# Altium footprint library CCHUB_Footprints.PcbLib: 7 footprints
Each footprint in its own frame and in the unit in brackets; x right, y up, seen from the top. Pads: shape width x height; smd on the part's side, far side on the other; paste and mask are expansions set on the pad; w line width, h text height; cw(c..) or ccw(c..) is an arc to the next point about the centre after c.
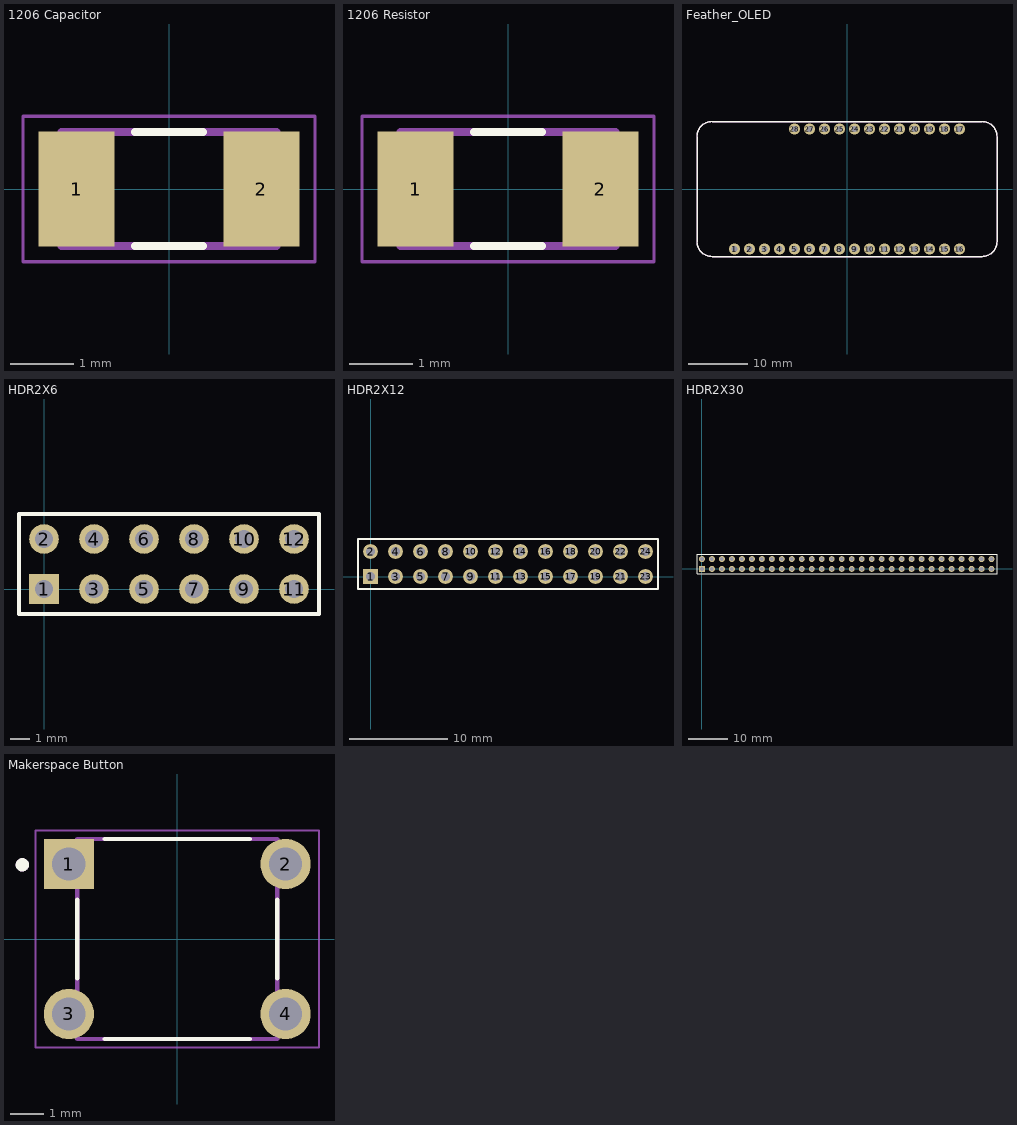
[diagram p0: the footprints below, top view; thin cyan lines are the x and y axes]

## 1206 Capacitor [mm]
pads (2):
  rect 1.2x1.82 smd: 1(-1.46,0) 2(1.46,0)
Top Overlay:
  lines w0.127: -0.54,-0.9 0.54,-0.9 ; -0.54,0.9 0.54,0.9
Mechanical 13:
  lines w0.127: -1.7,-0.9 1.7,-0.9 1.7,0.9 -1.7,0.9 -1.7,-0.9
Mechanical 15:
  lines w0.05: -2.308,-1.15 2.308,-1.15 2.308,1.15 -2.308,1.15 -2.308,-1.15
3D body "Capacitor 1206.STEP": height 1.61, standoff 0.01, extent -1.6,-0.902 1.6,0.898

## 1206 Resistor [mm]
pads (2):
  rect 1.2x1.82 smd: 1(-1.46,0) 2(1.46,0)
Top Overlay:
  lines w0.127: -0.54,-0.9 0.54,-0.9 ; -0.54,0.9 0.54,0.9
Mechanical 13:
  lines w0.127: -1.7,-0.9 -1.7,0.9 1.7,0.9 1.7,-0.9 -1.7,-0.9
Mechanical 15:
  lines w0.05: -2.308,-1.15 -2.308,1.15 2.308,1.15 2.308,-1.15 -2.308,-1.15
3D body "Resistor 1206.stp": height 0.56, standoff 0.01, extent -1.55,-0.775 1.55,0.775

## Feather_OLED [mil]
pads (28):
  round 74 hole 40: 1(-750,-400) 2(-650,-400) 3(-550,-400) 4(-450,-400) 5(-350,-400) 6(-250,-400) 7(-150,-400) 8(-50,-400) 9(50,-400) 10(150,-400) 11(250,-400) 12(350,-400) 13(450,-400) 14(550,-400) 15(650,-400) 16(750,-400) 17(750,400) 18(650,400) 19(550,400) 20(450,400) 21(350,400) 22(250,400) 23(150,400) 24(50,400) 25(-50,400) 26(-150,400) 27(-250,400) 28(-350,400)
Top Overlay:
  lines w10: -1000,-350 ccw(c-900,-350) -900,-450 900,-450 ccw(c900,-350) 1000,-350 1000,350 ccw(c900,350) 900,450 -900,450 ccw(c-900,350) -1000,350 -1000,-350
Mechanical 1:
  lines w10: -1000,-350 ccw(c-900,-350) -900,-450 900,-450 ccw(c900,-350) 1000,-350 1000,350 ccw(c900,350) 900,450 -900,450 ccw(c-900,350) -1000,350 -1000,-350
3D body "8-Pin Socket.stp": height 335.15, standoff -113.67, extent 0,350 800,450
3D body "2900 Feather OLED Wing.step": height 571.8, standoff 335.58, extent -1000,-450 1000,450
3D body "8-Pin Socket.stp": height 335.15, standoff -113.67, extent -800,-450 0,-350
3D body "8-Pin Socket.stp": height 335.15, standoff -113.67, extent 0,-450 800,-350
3D body "8-Pin Socket.stp": height 335.15, standoff -113.67, extent -400,350 400,450

## HDR2X6 [mm] "Connector; Header; 6x2 Position"
pads (12):
  rect 1.5x1.5 hole 0.9: 1(0,0)
  round 1.5 hole 0.9: 2(0,2.54) 3(2.54,0) 4(2.54,2.54) 5(5.08,0) 6(5.08,2.54) 7(7.62,0) 8(7.62,2.54) 9(10.16,0) 10(10.16,2.54) 11(12.7,0) 12(12.7,2.54)
Top Overlay:
  lines w0.2: -1.27,-1.27 13.97,-1.27 13.97,3.81 -1.27,3.81 -1.27,-1.27
3D body "6x2.STEP": height 8.52, standoff -3.39, extent -1.524,-1.27 14.224,3.81

## HDR2X12 [mm] "Connector; Header; 12x2 Position"
pads (24):
  rect 1.5x1.5 hole 0.9: 1(0,0)
  round 1.5 hole 0.9: 2(0,2.54) 3(2.54,0) 4(2.54,2.54) 5(5.08,0) 6(5.08,2.54) 7(7.62,0) 8(7.62,2.54) 9(10.16,0) 10(10.16,2.54) 11(12.7,0) 12(12.7,2.54) 13(15.24,0) 14(15.24,2.54) 15(17.78,0) 16(17.78,2.54) 17(20.32,0) 18(20.32,2.54) 19(22.86,0) 20(22.86,2.54) 21(25.4,0) 22(25.4,2.54) 23(27.94,0) 24(27.94,2.54)
Top Overlay:
  lines w0.2: -1.27,-1.27 -1.27,3.81 29.21,3.81 29.21,-1.27 -1.27,-1.27
3D body "12x2.STEP": height 8.52, standoff -3.39, extent -1.524,-1.27 29.464,3.81

## HDR2X30 [mm] "Connector; Header; 30x2 Position"
pads (60):
  rect 1.5x1.5 hole 0.9: 1(0,0)
  round 1.5 hole 0.9: 2(0,2.54) 3(2.54,0) 4(2.54,2.54) 5(5.08,0) 6(5.08,2.54) 7(7.62,0) 8(7.62,2.54) 9(10.16,0) 10(10.16,2.54) 11(12.7,0) 12(12.7,2.54) 13(15.24,0) 14(15.24,2.54) 15(17.78,0) 16(17.78,2.54) 17(20.32,0) 18(20.32,2.54) 19(22.86,0) 20(22.86,2.54) 21(25.4,0) 22(25.4,2.54) 23(27.94,0) 24(27.94,2.54) 25(30.48,0) 26(30.48,2.54) 27(33.02,0) 28(33.02,2.54) 29(35.56,0) 30(35.56,2.54) 31(38.1,0) 32(38.1,2.54) 33(40.64,0) 34(40.64,2.54) 35(43.18,0) 36(43.18,2.54) 37(45.72,0) 38(45.72,2.54) 39(48.26,0) 40(48.26,2.54) 41(50.8,0) 42(50.8,2.54) 43(53.34,0) 44(53.34,2.54) 45(55.88,0) 46(55.88,2.54) 47(58.42,0) 48(58.42,2.54) 49(60.96,0) 50(60.96,2.54) 51(63.5,0) 52(63.5,2.54) 53(66.04,0) 54(66.04,2.54) 55(68.58,0) 56(68.58,2.54) 57(71.12,0) 58(71.12,2.54) 59(73.66,0) 60(73.66,2.54)
Top Overlay:
  lines w0.2: -1.27,-1.27 75.06,-1.27 75.06,3.81 -1.27,3.81 -1.27,-1.27
Bottom Overlay:
  text "1" at -55.88,-0.508 h1.27
3D body "2x30.step": height 8.33, standoff -3.04, extent -1.27,-1.27 74.93,3.81

## Makerspace Button [mm]
pads (4):
  rect 1.508x1.508 hole 1: 1(-3.25,2.25)
  round 1.508 hole 1: 2(3.25,2.25) 3(-3.25,-2.25) 4(3.25,-2.25)
Top Overlay:
  circle w0.2: c-4.647,2.226 r0.1
  lines w0.127: -3,-1.176 -3,1.176 ; -2.176,-3 2.176,-3 ; -2.176,3 2.176,3 ; 3,-1.176 3,1.176
Mechanical 13:
  circle w0.2: c-4.647,2.226 r0.1
  lines w0.127: -3,-3 3,-3 3,3 -3,3 -3,-3
Mechanical 15:
  lines w0.05: -4.254,-3.254 -4.254,3.254 4.254,3.254 4.254,-3.254 -4.254,-3.254
3D body "Makerspace Blue Button.step": height 4.9, standoff 0, extent -5.5,-4.2 5.5,4.2